# Altium footprint library 750317248.PcbLib: 1 footprints
Each footprint in its own frame and in the unit in brackets; x right, y up, seen from the top. Pads: shape width x height; smd on the part's side, far side on the other; paste and mask are expansions set on the pad; w line width, h text height; cw(c..) or ccw(c..) is an arc to the next point about the centre after c.
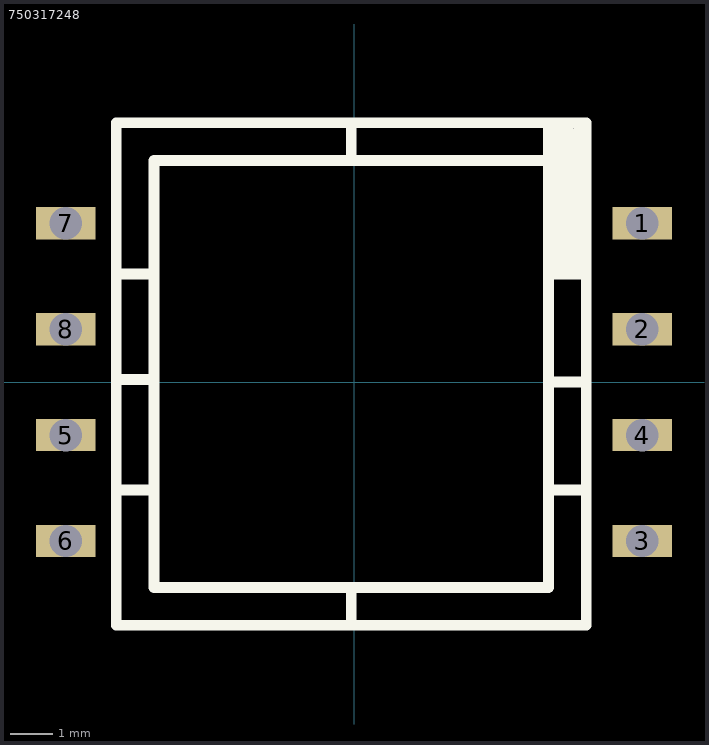
[diagram p0: the footprint, top view; thin cyan lines are the x and y axes]

## 750317248 [mm]
pads (8):
  rect 1.4x0.76 hole 0.762: 1(6.78,3.735) 2(6.78,1.245) 3(6.78,-3.735) 4(6.78,-1.245) 5(-6.78,-1.245) 6(-6.78,-3.735) 7(-6.78,3.735) 8(-6.78,1.245)
Top Overlay:
  lines w0.254: -5.588,-2.54 -4.699,-2.54 ; -5.588,0.064 -4.763,0.064 ; -5.588,2.54 -4.699,2.54 ; -4.699,5.08 -4.699,-4.826 4.572,-4.826 4.572,5.207 ; -4.699,5.143 -4.699,5.207 4.572,5.207 ; -0.064,-5.715 -0.064,-4.826 ; -0.064,5.207 -0.064,6.096 ; 4.572,-2.54 5.461,-2.54 ; 4.572,0 5.397,0 ; 4.572,2.54 5.461,2.54 ; 4.572,6.096 4.572,5.207 ; 4.826,2.54 4.826,5.461 4.826,6.096 ; 5.016,2.54 5.016,5.651 5.016,6.032 ; 5.207,2.54 5.207,5.842 ; 4.572,5.207 5.461,6.096 ; 5.461,6.096 -5.588,6.096 -5.588,-5.715 5.461,-5.715 5.461,6.096